# Altium integrated library 22-28-4033.IntLib: 1 symbol
Pins are listed as number, name and electrical type; pins without a type are passive.

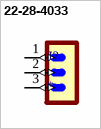
[diagram p0: symbol 22-28-4033]

## 22-28-4033
designator J?
Connector Header Through Hole 3 position 0.100 (2.54mm); MF: Molex; MP: 22284033; Package: None; Price: None; Value: *; SnapEDA_Link: https://www.snapeda.com/parts/22284033/Molex/view-part/?ref=snap; Availability: In Stock; Check_prices: https://www.snapeda.com/parts/22284033/Molex/view-part/?ref=eda
footprint 1X03-PIN
pins: 1 (io), 2 (io), 3 (io)